# EAGLE library part ESP32 (library PatternAgents_RFmodules)
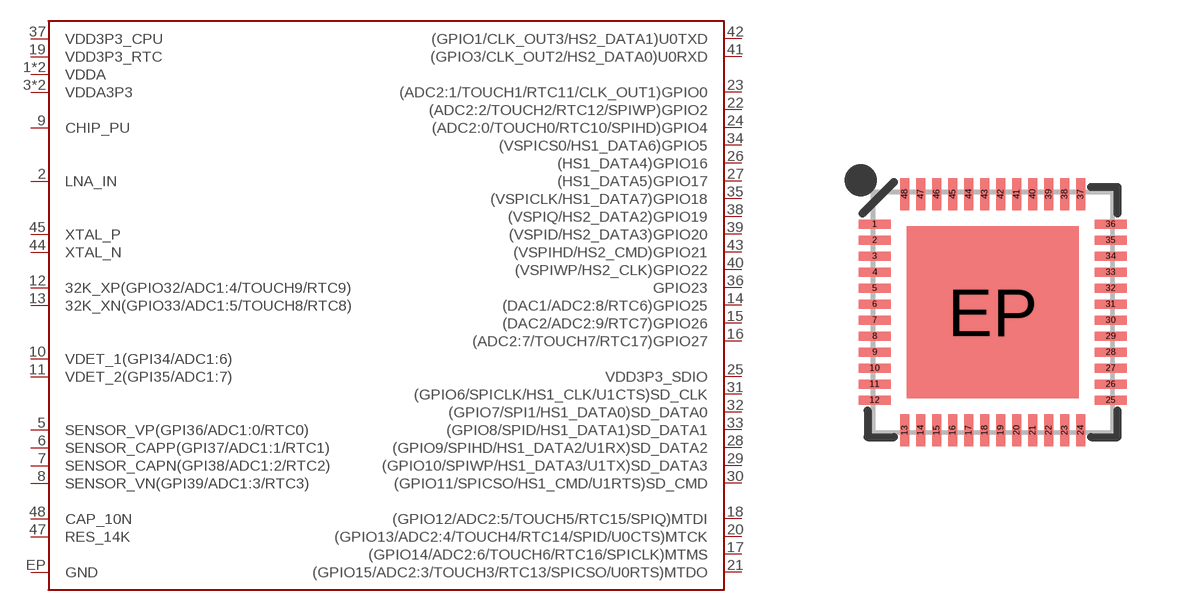
[diagram p4: symbol with the pads of QFN48-0.4MM; footprint QFN48-0.4MM]

Designator prefix -

## ESP32  [QFN48-0.4MM]
1  VDDA
2  LNA_IN
3  VDDA3P3
4  VDDA3P3
5  SENSOR_VP(GPI36/ADC1:0/RTC0)
6  SENSOR_CAPP(GPI37/ADC1:1/RTC1)
7  SENSOR_CAPN(GPI38/ADC1:2/RTC2)
8  SENSOR_VN(GPI39/ADC1:3/RTC3)
9  CHIP_PU
10  VDET_1(GPI34/ADC1:6)
11  VDET_2(GPI35/ADC1:7)
12  32K_XP(GPIO32/ADC1:4/TOUCH9/RTC9)
13  32K_XN(GPIO33/ADC1:5/TOUCH8/RTC8)
14  (DAC1/ADC2:8/RTC6)GPIO25
15  (DAC2/ADC2:9/RTC7)GPIO26
16  (ADC2:7/TOUCH7/RTC17)GPIO27
17  (GPIO14/ADC2:6/TOUCH6/RTC16/SPICLK)MTMS
18  (GPIO12/ADC2:5/TOUCH5/RTC15/SPIQ)MTDI
19  VDD3P3_RTC
20  (GPIO13/ADC2:4/TOUCH4/RTC14/SPID/U0CTS)MTCK
21  (GPIO15/ADC2:3/TOUCH3/RTC13/SPICSO/U0RTS)MTDO
22  (ADC2:2/TOUCH2/RTC12/SPIWP)GPIO2
23  (ADC2:1/TOUCH1/RTC11/CLK_OUT1)GPIO0
24  (ADC2:0/TOUCH0/RTC10/SPIHD)GPIO4
25  VDD3P3_SDIO
26  (HS1_DATA4)GPIO16
27  (HS1_DATA5)GPIO17
28  (GPIO9/SPIHD/HS1_DATA2/U1RX)SD_DATA2
29  (GPIO10/SPIWP/HS1_DATA3/U1TX)SD_DATA3
30  (GPIO11/SPICSO/HS1_CMD/U1RTS)SD_CMD
31  (GPIO6/SPICLK/HS1_CLK/U1CTS)SD_CLK
32  (GPIO7/SPI1/HS1_DATA0)SD_DATA0
33  (GPIO8/SPID/HS1_DATA1)SD_DATA1
34  (VSPICS0/HS1_DATA6)GPIO5
35  (VSPICLK/HS1_DATA7)GPIO18
36  GPIO23
37  VDD3P3_CPU
38  (VSPIQ/HS2_DATA2)GPIO19
39  (VSPID/HS2_DATA3)GPIO20
40  (VSPIWP/HS2_CLK)GPIO22
41  (GPIO3/CLK_OUT2/HS2_DATA0)U0RXD
42  (GPIO1/CLK_OUT3/HS2_DATA1)U0TXD
43  (VSPIHD/HS2_CMD)GPIO21
44  XTAL_N
45  XTAL_P
46  VDDA
47  RES_14K
48  CAP_10N
EP  GND

## Footprint QFN48-0.4MM (pad centres in mm)
smd 0.8 x 0.23: 1 -2.95,2.2; 2 -2.95,1.8; 3 -2.95,1.4; 4 -2.95,1; 5 -2.95,0.6; 6 -2.95,0.2; 7 -2.95,-0.2; 8 -2.95,-0.6; 9 -2.95,-1; 10 -2.95,-1.4; 11 -2.95,-1.8; 12 -2.95,-2.2; 25 2.95,-2.2; 26 2.95,-1.8; 27 2.95,-1.4; 28 2.95,-1; 29 2.95,-0.6; 30 2.95,-0.2; 31 2.95,0.2; 32 2.95,0.6; 33 2.95,1; 34 2.95,1.4; 35 2.95,1.8; 36 2.95,2.2
smd 0.23 x 0.8: 13 -2.2,-2.95; 14 -1.8,-2.95; 15 -1.4,-2.95; 16 -1,-2.95; 17 -0.6,-2.95; 18 -0.2,-2.95; 19 0.2,-2.95; 20 0.6,-2.95; 21 1,-2.95; 22 1.4,-2.95; 23 1.8,-2.95; 24 2.2,-2.95; 37 2.2,2.95; 38 1.8,2.95; 39 1.4,2.95; 40 1,2.95; 41 0.6,2.95; 42 0.2,2.95; 43 -0.2,2.95; 44 -0.6,2.95; 45 -1,2.95; 46 -1.4,2.95; 47 -1.8,2.95; 48 -2.2,2.95
smd 4.3 x 4.3: EP 0,0